# Altium footprint library Relays.PcbLib: 58 footprints (part 2 of 4)
Each footprint in its own frame and in the unit in brackets; x right, y up, seen from the top. Pads: shape width x height; smd on the part's side, far side on the other; paste and mask are expansions set on the pad; w line width, h text height; cw(c..) or ccw(c..) is an arc to the next point about the centre after c.
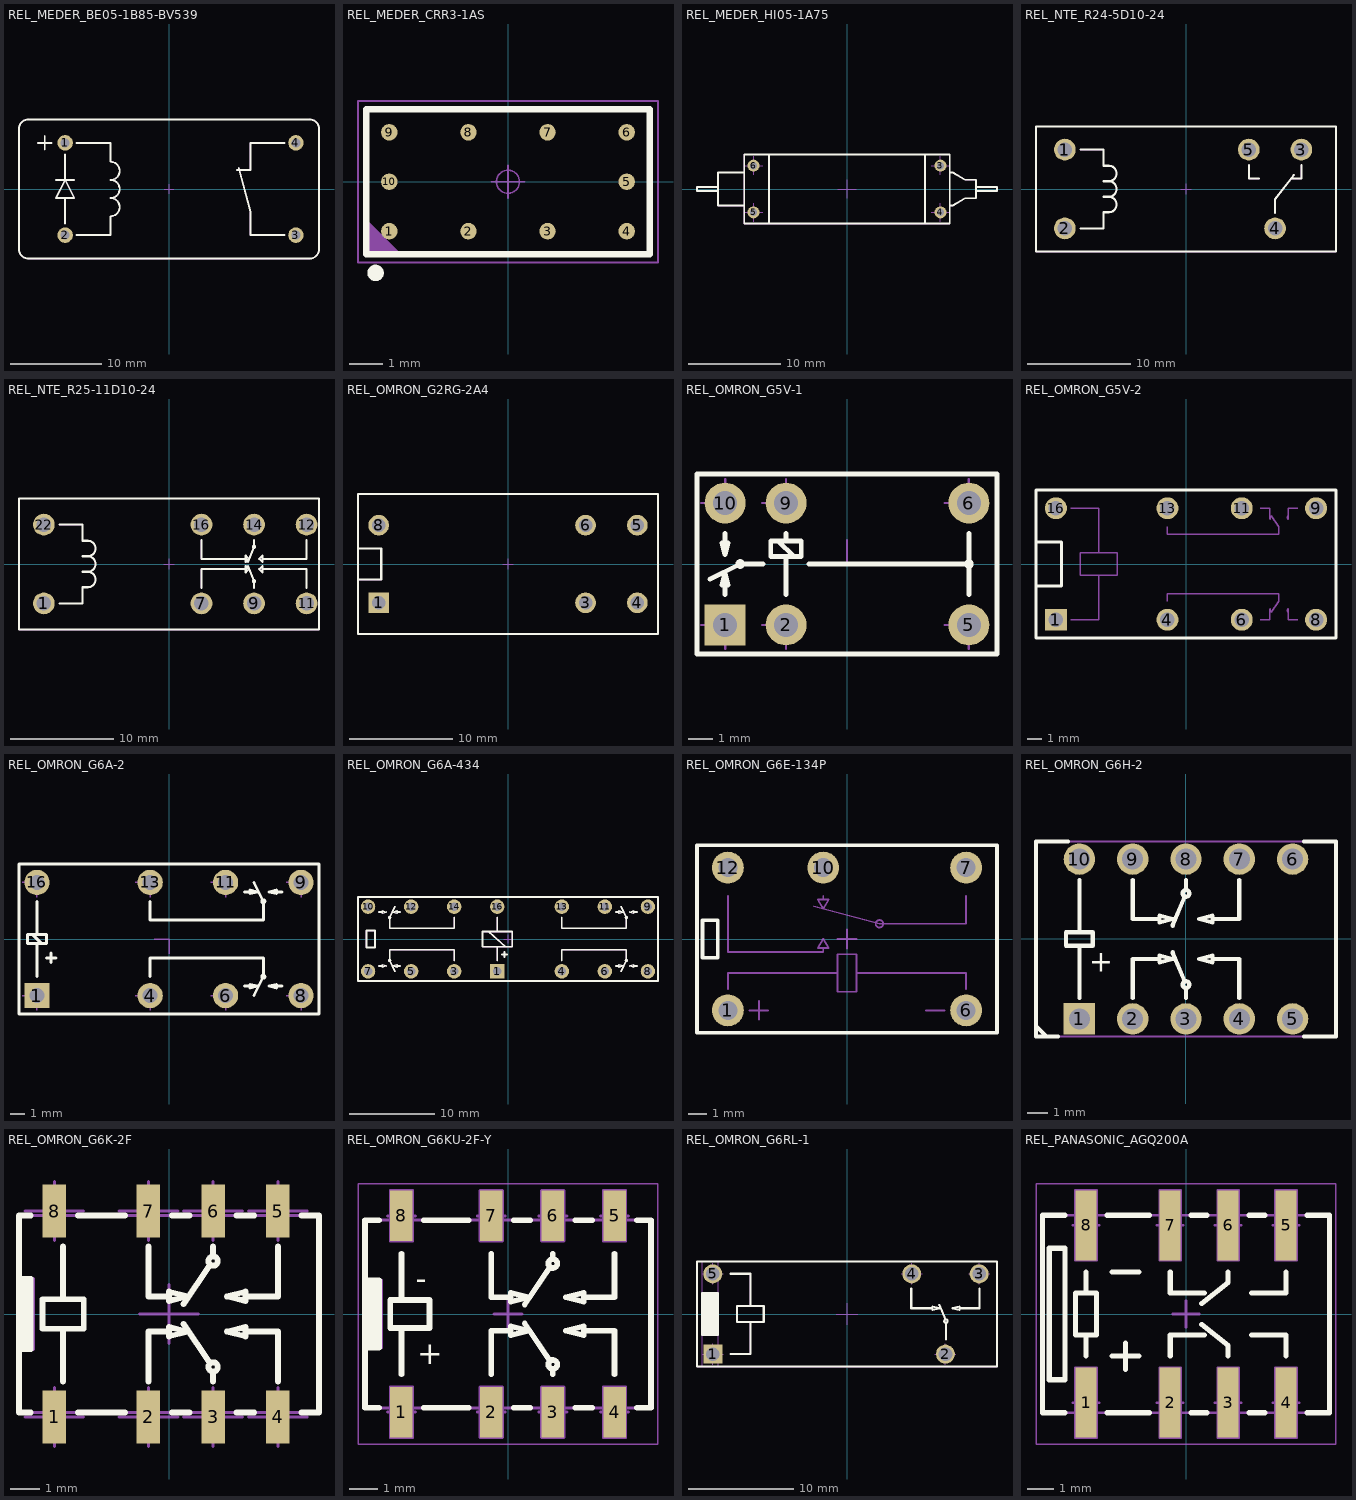
[diagram p1: the footprints below, top view; thin cyan lines are the x and y axes]

## REL_MEDER_BE05-1B85-BV539 [mm] "1 Form B (SPST Normaly Close) PCB Relay, Body 33mm x 15.3mm, Body 33mm x 15.3mm"
height 10
pads (4):
  round 1.7 hole 1: 1(-11.43,5.08) 2(-11.43,-5.08) 3(13.97,-5.08) 4(13.97,5.08)
Top Overlay:
  lines w0.2: -14.43,5.08 -12.93,5.08 ; -13.68,4.33 -13.68,5.83 ; -12.43,1 -10.43,1 ; -11.43,-3.83 -11.43,-1 ; -11.43,3.83 -11.43,1 ; -10.18,-5.08 -6.43,-5.08 -6.43,-3 ccw(c-6.43,-2) -6.43,-1 ccw(c-6.43,0) -6.43,1 ccw(c-6.43,2) -6.43,3 -6.43,5.08 -10.18,5.08 ; 7.47,2.08 8.97,2.08 8.97,5.08 12.72,5.08 ; 7.676,2.33 8.97,-2.5 8.97,-5.08 12.72,-5.08 ; -11.43,1 -12.43,-1 -10.43,-1 -11.43,1 ; -16.51,-6.65 ccw(c-15.51,-6.65) -15.51,-7.65 15.51,-7.65 ccw(c15.51,-6.65) 16.51,-6.65 16.51,6.65 ccw(c15.51,6.65) 15.51,7.65 -15.51,7.65 ccw(c-15.51,6.65) -16.51,6.65 -16.51,-6.65
Mechanical 8:
  lines w0.1: -11.93,-5.08 -11.43,-5.08 ; -11.93,5.08 -11.43,5.08 ; -11.43,-5.58 -11.43,-5.08 ; -11.43,-4.58 -11.43,-5.08 ; -11.43,4.58 -11.43,5.08 ; -11.43,5.58 -11.43,5.08 ; -10.93,-5.08 -11.43,-5.08 ; -10.93,5.08 -11.43,5.08 ; -0.5,0 0,0 ; 0,-0.5 0,0 ; 0,0.5 0,0 ; 0.5,0 0,0 ; 13.47,-5.08 13.97,-5.08 ; 13.47,5.08 13.97,5.08 ; 13.97,-5.58 13.97,-5.08 ; 13.97,-4.58 13.97,-5.08 ; 13.97,4.58 13.97,5.08 ; 13.97,5.58 13.97,5.08 ; 14.47,-5.08 13.97,-5.08 ; 14.47,5.08 13.97,5.08
Mechanical 14:
  lines w0.1: -14.43,5.08 -12.93,5.08 ; -13.68,4.33 -13.68,5.83 ; -12.43,1 -10.43,1 ; -11.43,-3.83 -11.43,-1 ; -11.43,3.83 -11.43,1 ; -10.18,-5.08 -6.43,-5.08 -6.43,-3 ccw(c-6.43,-2) -6.43,-1 ccw(c-6.43,0) -6.43,1 ccw(c-6.43,2) -6.43,3 -6.43,5.08 -10.18,5.08 ; 7.47,2.08 8.97,2.08 8.97,5.08 12.72,5.08 ; 7.676,2.33 8.97,-2.5 8.97,-5.08 12.72,-5.08 ; -11.43,1 -12.43,-1 -10.43,-1 -11.43,1 ; -16.51,-6.65 ccw(c-15.51,-6.65) -15.51,-7.65 15.51,-7.65 ccw(c15.51,-6.65) 16.51,-6.65 16.51,6.65 ccw(c15.51,6.65) 15.51,7.65 -15.51,7.65 ccw(c-15.51,6.65) -16.51,6.65 -16.51,-6.65
3D body: height 10, standoff -3.2, extent -16.51,-7.65 16.51,7.65

## REL_MEDER_CRR3-1AS [mm] "10 Pin SPST BGA Relay, MEDER CRR3-1AS CRR Serie, Body 8.6mm x 4.4mm"
height 3.9
pads (10):
  round 0.5 smd: 1(-3.6,-1.5) 2(-1.2,-1.5) 3(1.2,-1.5) 4(3.6,-1.5) 5(3.6,0) 6(3.6,1.5) 7(1.2,1.5) 8(-1.2,1.5) 9(-3.6,1.5) 10(-3.6,0)
Top Overlay:
  circle w0.25: c-4.017,-2.766 r0.125
  lines w0.2: -4.3,-2.2 -4.3,2.2 4.3,2.2 4.3,-2.2 -4.3,-2.2
Mechanical 14:
  lines w0.1: -4.3,-2.1 -4.2,-2.2 ; -4.3,-2 -4.1,-2.2 ; -4.3,-1.9 -4,-2.2 ; -4.3,-1.8 -3.9,-2.2 ; -4.3,-1.7 -3.8,-2.2 ; -4.3,-1.6 -3.7,-2.2 ; -4.3,-1.5 -3.6,-2.2 ; -4.3,-1.4 -3.5,-2.2 ; -4.3,-1.3 -3.4,-2.2 ; -4.3,-1.2 -3.3,-2.2 ; -4.3,-2.2 -4.3,2.2 4.3,2.2 4.3,-2.2 -4.3,-2.2
Mechanical 15:
  circle w0.05: c0,0 r0.35
  lines w0.05: -0.5,0 0.5,0 ; 0,-0.5 0,0.5 ; -4.55,-2.45 -4.55,2.45 4.55,2.45 4.55,-2.45 -4.55,-2.45
3D body: height 3.6, standoff 0, extent -4.3,-2.2 4.3,2.2

## REL_MEDER_HI05-1A75 [mm] "SPST High Insulation Reed Relay, MEDER HI Series, Body 34 x 7.5 x 7.9 mm"
height 7.9
pads (4):
  round 1.3 hole 0.8: 3(10.16,2.54) 4(10.16,-2.54) 5(-10.16,-2.54) 6(-10.16,2.54)
Top Overlay:
  lines w0.2: -14,-0.2 -16.3,-0.2 -16.3,0.2 -14,0.2 ; -11.16,-1.8 -14,-1.8 -14,1.8 -11.16,1.8 ; -8.46,-3.75 -8.46,3.75 ; 8.46,-3.75 8.46,3.75 ; 11.16,-1.8 11.5,-1.8 12.833,-1 14,-1 14,1 12.833,1 11.5,1.8 11.16,1.8 ; 14,-0.2 16.3,-0.2 16.3,0.2 14,0.2 ; -11.16,-3.75 11.16,-3.75 11.16,3.75 -11.16,3.75 -11.16,-3.75
Mechanical 8:
  lines w0.1: -11.16,-2.54 -10.16,-2.54 ; -11.16,2.54 -10.16,2.54 ; -10.16,-3.54 -10.16,-2.54 ; -10.16,-1.54 -10.16,-2.54 ; -10.16,1.54 -10.16,2.54 ; -10.16,3.54 -10.16,2.54 ; -9.16,-2.54 -10.16,-2.54 ; -9.16,2.54 -10.16,2.54 ; -1,0 0,0 ; 0,-1 0,0 ; 0,1 0,0 ; 1,0 0,0 ; 9.16,-2.54 10.16,-2.54 ; 9.16,2.54 10.16,2.54 ; 10.16,-3.54 10.16,-2.54 ; 10.16,-1.54 10.16,-2.54 ; 10.16,1.54 10.16,2.54 ; 10.16,3.54 10.16,2.54 ; 11.16,-2.54 10.16,-2.54 ; 11.16,2.54 10.16,2.54
Mechanical 14:
  lines w0.1: -14,-0.2 -16.3,-0.2 -16.3,0.2 -14,0.2 ; -11.16,-1.8 -14,-1.8 -14,1.8 -11.16,1.8 ; -8.46,-3.75 -8.46,3.75 ; 8.46,-3.75 8.46,3.75 ; 11.16,-1.8 11.5,-1.8 12.833,-1 14,-1 14,1 12.833,1 11.5,1.8 11.16,1.8 ; 14,-0.2 16.3,-0.2 16.3,0.2 14,0.2 ; -11.16,-3.75 11.16,-3.75 11.16,3.75 -11.16,3.75 -11.16,-3.75
3D body: height 7.4, standoff -3.8, extent -16.3,-3.75 16.3,3.75

## REL_NTE_R24-5D10-24 [mm] "SPDT PCB Relay, R24 Serie"
height 26.2
pads (5):
  round 2.1 hole 1.4: 1(-11.71,3.81) 2(-11.71,-3.81) 3(11.15,3.81) 4(8.61,-3.81) 5(6.07,3.81)
Top Overlay:
  lines w0.2: -10.21,-3.81 -7.958,-3.81 -7.958,-2.25 -7.458,-2.25 ccw(c-7.458,-1.5) -7.458,-0.75 ; -10.21,3.81 -7.958,3.81 -7.958,2.25 -7.458,2.25 cw(c-7.458,1.5) -7.458,0.75 ; -7.958,-0.75 -7.458,-0.75 ; -7.958,0.75 -7.458,0.75 ; 6.07,2.31 6.07,1 7.07,1 ; 8.61,-2.31 8.61,-1 10.413,1.342 ; 10.15,1 11.15,1 11.15,2.31 ; -7.458,-0.75 ccw(c-7.458,0) -7.458,0.75 ; -14.5,-6.05 -14.5,6.05 14.5,6.05 14.5,-6.05 -14.5,-6.05
Mechanical 8:
  lines w0.1: -12.21,-3.81 -11.71,-3.81 ; -12.21,3.81 -11.71,3.81 ; -11.71,-4.31 -11.71,-3.81 ; -11.71,-3.31 -11.71,-3.81 ; -11.71,3.31 -11.71,3.81 ; -11.71,4.31 -11.71,3.81 ; -11.21,-3.81 -11.71,-3.81 ; -11.21,3.81 -11.71,3.81 ; -0.5,0 0,0 ; 0,-0.5 0,0 ; 0,0.5 0,0 ; 0.5,0 0,0 ; 5.57,3.81 6.07,3.81 ; 6.07,3.31 6.07,3.81 ; 6.07,4.31 6.07,3.81 ; 6.57,3.81 6.07,3.81 ; 8.11,-3.81 8.61,-3.81 ; 8.61,-4.31 8.61,-3.81 ; 8.61,-3.31 8.61,-3.81 ; 9.11,-3.81 8.61,-3.81 ; 10.65,3.81 11.15,3.81 ; 11.15,3.31 11.15,3.81 ; 11.15,4.31 11.15,3.81 ; 11.65,3.81 11.15,3.81
Mechanical 14:
  lines w0.1: -10.21,-3.81 -7.958,-3.81 -7.958,-2.25 -7.458,-2.25 ccw(c-7.458,-1.5) -7.458,-0.75 ; -10.21,3.81 -7.958,3.81 -7.958,2.25 -7.458,2.25 cw(c-7.458,1.5) -7.458,0.75 ; -7.958,-0.75 -7.458,-0.75 ; -7.958,0.75 -7.458,0.75 ; 6.07,2.31 6.07,1 7.07,1 ; 8.61,-2.31 8.61,-1 10.413,1.342 ; 10.15,1 11.15,1 11.15,2.31 ; -7.458,-0.75 ccw(c-7.458,0) -7.458,0.75 ; -14.5,-6.05 -14.5,6.05 14.5,6.05 14.5,-6.05 -14.5,-6.05
3D body: height 26.2, standoff -3.8, extent -14.5,-6.05 14.5,6.05

## REL_NTE_R25-11D10-24 [mm] "DPDT PCB Relay, R25 Serie"
height 25.5
pads (8):
  round 2.1 hole 1.4: 1(-12.1,-3.81) 7(3.14,-3.81) 9(8.22,-3.81) 11(13.3,-3.81) 12(13.3,3.81) 14(8.22,3.81) 16(3.14,3.81) 22(-12.1,3.81)
Top Overlay:
  circle w0.2: c8.22,-1.655 r0.1
  circle w0.2: c8.22,1.655 r0.1
  lines w0.2: -10.6,-3.81 -8.348,-3.81 -8.348,-2.25 -7.848,-2.25 ccw(c-7.848,-1.5) -7.848,-0.75 ; -10.6,3.81 -8.348,3.81 -8.348,2.25 -7.848,2.25 cw(c-7.848,1.5) -7.848,0.75 ; -8.348,-0.75 -7.848,-0.75 ; -8.348,0.75 -7.848,0.75 ; 3.14,-2.31 3.14,-0.5 7.42,-0.5 ; 3.14,2.31 3.14,0.5 7.42,0.5 ; 7.633,-0.2 8.22,-1.655 8.22,-2.31 ; 7.633,0.2 8.22,1.655 8.22,2.31 ; 9.02,-0.5 13.3,-0.5 13.3,-2.31 ; 9.02,0.5 13.3,0.5 13.3,2.31 ; -7.848,-0.75 ccw(c-7.848,0) -7.848,0.75 ; -14.5,-6.35 14.5,-6.35 14.5,6.35 -14.5,6.35 -14.5,-6.35 ; 7.42,-0.8 7.42,-0.2 7.72,-0.5 7.42,-0.8 ; 7.42,0.2 7.42,0.8 7.72,0.5 7.42,0.2 ; 8.72,-0.5 9.02,-0.2 9.02,-0.8 8.72,-0.5 ; 8.72,0.5 9.02,0.2 9.02,0.8 8.72,0.5
Mechanical 8:
  lines w0.1: -12.6,-3.81 -12.1,-3.81 ; -12.6,3.81 -12.1,3.81 ; -12.1,-4.31 -12.1,-3.81 ; -12.1,-3.31 -12.1,-3.81 ; -12.1,3.31 -12.1,3.81 ; -12.1,4.31 -12.1,3.81 ; -11.6,-3.81 -12.1,-3.81 ; -11.6,3.81 -12.1,3.81 ; -0.5,0 0,0 ; 0,-0.5 0,0 ; 0,0.5 0,0 ; 0.5,0 0,0 ; 2.64,3.81 3.14,3.81 ; 3.14,3.31 3.14,3.81 ; 3.14,4.31 3.14,3.81 ; 3.64,3.81 3.14,3.81 ; 7.72,3.81 8.22,3.81 ; 8.22,3.31 8.22,3.81 ; 8.22,4.31 8.22,3.81 ; 8.72,3.81 8.22,3.81 ; 12.8,-3.81 13.3,-3.81 ; 12.8,3.81 13.3,3.81 ; 13.3,-4.31 13.3,-3.81 ; 13.3,-3.31 13.3,-3.81 ; 13.3,3.31 13.3,3.81 ; 13.3,4.31 13.3,3.81 ; 13.8,-3.81 13.3,-3.81 ; 13.8,3.81 13.3,3.81 ; 2.64,-3.81 3.14,-3.81 ; 2.64,-3.81 3.14,-3.81 ; 2.64,-3.81 3.14,-3.81 ; 3.14,-4.31 3.14,-3.81 ; 3.14,-4.31 3.14,-3.81 ; 3.14,-4.31 3.14,-3.81 ; 3.14,-3.81 3.64,-3.81 ; 3.14,-3.81 3.14,-3.31 ; 3.14,-3.81 3.64,-3.81 ; 3.14,-3.81 3.14,-3.31 ; 3.14,-3.81 3.64,-3.81 ; 3.14,-3.81 3.14,-3.31 ; 7.72,-3.81 8.22,-3.81 ; 7.72,-3.81 8.22,-3.81 ; 7.72,-3.81 8.22,-3.81 ; 7.72,-3.81 8.22,-3.81 ; 8.22,-4.31 8.22,-3.81 ; 8.22,-4.31 8.22,-3.81 ; 8.22,-4.31 8.22,-3.81 ; 8.22,-4.31 8.22,-3.81 ; 8.22,-3.81 8.72,-3.81 ; 8.22,-3.81 8.22,-3.31 ; 8.22,-3.81 8.72,-3.81 ; 8.22,-3.81 8.22,-3.31 ; 8.22,-3.81 8.72,-3.81 ; 8.22,-3.81 8.22,-3.31 ; 8.22,-3.81 8.72,-3.81 ; 8.22,-3.81 8.22,-3.31
Mechanical 14:
  circle w0.1: c8.22,-1.655 r0.1
  circle w0.1: c8.22,1.655 r0.1
  lines w0.1: -10.6,-3.81 -8.348,-3.81 -8.348,-2.25 -7.848,-2.25 ccw(c-7.848,-1.5) -7.848,-0.75 ; -10.6,3.81 -8.348,3.81 -8.348,2.25 -7.848,2.25 cw(c-7.848,1.5) -7.848,0.75 ; -8.348,-0.75 -7.848,-0.75 ; -8.348,0.75 -7.848,0.75 ; 3.14,-2.31 3.14,-0.5 7.42,-0.5 ; 3.14,2.31 3.14,0.5 7.42,0.5 ; 7.633,-0.2 8.22,-1.655 8.22,-2.31 ; 7.633,0.2 8.22,1.655 8.22,2.31 ; 9.02,-0.5 13.3,-0.5 13.3,-2.31 ; 9.02,0.5 13.3,0.5 13.3,2.31 ; -7.848,-0.75 ccw(c-7.848,0) -7.848,0.75 ; -14.5,-6.35 14.5,-6.35 14.5,6.35 -14.5,6.35 -14.5,-6.35 ; 7.42,-0.8 7.42,-0.2 7.72,-0.5 7.42,-0.8 ; 7.42,0.2 7.42,0.8 7.72,0.5 7.42,0.2 ; 8.72,-0.5 9.02,-0.2 9.02,-0.8 8.72,-0.5 ; 8.72,0.5 9.02,0.2 9.02,0.8 8.72,0.5
3D body: height 25.5, standoff -3.8, extent -14.5,-6.35 14.5,6.35

## REL_OMRON_G2RG-2A4 [mm] "6 Leads, Row Spacing 7.5 mm; Body 29mm x 13.5mm, OMRON_G2RG Serie"
height 0.648
pads (6):
  rect 2x2 hole 1.3: 1(-12.5,-3.75)
  round 2 hole 1.3: 3(7.5,-3.75) 4(12.5,-3.75) 5(12.5,3.75) 6(7.5,3.75) 8(-12.5,3.75)
Top Overlay:
  lines w0.2: -14.5,-1.5 -12.25,-1.5 -12.25,1.5 -14.5,1.5 ; -14.5,-6.75 14.5,-6.75 14.5,6.75 -14.5,6.75 -14.5,-6.75
Mechanical 8:
  lines w0.1: -13,-3.75 -12.5,-3.75 ; -13,3.75 -12.5,3.75 ; -12.5,-4.25 -12.5,-3.75 ; -12.5,-3.25 -12.5,-3.75 ; -12.5,3.25 -12.5,3.75 ; -12.5,4.25 -12.5,3.75 ; -12,-3.75 -12.5,-3.75 ; -12,3.75 -12.5,3.75 ; -0.5,0 0,0 ; 0,-0.5 0,0 ; 0,0.5 0,0 ; 0.5,0 0,0 ; 7,-3.75 7.5,-3.75 ; 7,3.75 7.5,3.75 ; 7.5,-4.25 7.5,-3.75 ; 7.5,-3.25 7.5,-3.75 ; 7.5,3.25 7.5,3.75 ; 7.5,4.25 7.5,3.75 ; 8,-3.75 7.5,-3.75 ; 8,3.75 7.5,3.75 ; 12,-3.75 12.5,-3.75 ; 12,3.75 12.5,3.75 ; 12.5,-4.25 12.5,-3.75 ; 12.5,-3.25 12.5,-3.75 ; 12.5,3.25 12.5,3.75 ; 12.5,4.25 12.5,3.75 ; 13,-3.75 12.5,-3.75 ; 13,3.75 12.5,3.75
Mechanical 14:
  lines w0.1: -14.5,-1.5 -12.25,-1.5 -12.25,1.5 -14.5,1.5 ; -14.5,-6.75 14.5,-6.75 14.5,6.75 -14.5,6.75 -14.5,-6.75
3D body: height 25.5, standoff -3.6, extent -14.5,-6.75 14.5,6.75

## REL_OMRON_G5V-1 [mm] "6 Leads, Row Spacing 5.08mm; Body 12.5mm x 7.5mm, OMRON_G5V-1 Serie"
height 10
pads (6):
  rect 1.7x1.7 hole 1: 1(-5.08,-2.54)
  round 1.7 hole 1: 2(-2.54,-2.54) 5(5.08,-2.54) 6(5.08,2.54) 9(-2.54,2.54) 10(-5.08,2.54)
Top Overlay:
  circle w0.2: c-4.445,0 r0.1
  circle w0.2: c5.08,0 r0.1
  lines w0.2: -5.715,-0.635 -4.445,0 -3.492,0 ; -5.08,-1.27 -5.08,-0.885 ; -5.08,0.885 -5.08,1.27 ; -2.858,0.953 -2.222,0.318 ; -2.54,-1.27 -2.54,0.318 ; -2.54,0.953 -2.54,1.27 ; -1.587,0 5.08,0 ; 5.08,-1.27 5.08,1.27 ; -6.25,-3.75 6.25,-3.75 6.25,3.75 -6.25,3.75 -6.25,-3.75 ; -5.205,-0.885 -4.955,-0.885 -5.08,-0.385 -5.205,-0.885 ; -5.205,0.885 -4.955,0.885 -5.08,0.385 -5.205,0.885 ; -3.175,0.318 -3.175,0.953 -1.905,0.953 -1.905,0.318 -3.175,0.318
Mechanical 8:
  lines w0.1: -6.08,-2.54 -5.08,-2.54 -5.08,-3.54 ; -6.08,2.54 -5.08,2.54 -5.08,3.54 ; -3.54,-2.54 -2.54,-2.54 -2.54,-3.54 ; -3.54,2.54 -2.54,2.54 -2.54,3.54 ; -1,0 0,0 0,1 ; 4.08,-2.54 5.08,-2.54 5.08,-3.54 ; 4.08,2.54 5.08,2.54 5.08,3.54
Mechanical 14:
  circle w0.1: c5.08,0 r0.1
  circle w0.1: c-4.445,0 r0.1
  lines w0.1: -5.715,-0.635 -4.445,0 -3.492,0 ; -5.08,-1.27 -5.08,-0.885 ; -5.08,0.885 -5.08,1.27 ; -2.858,0.953 -2.222,0.318 ; -2.54,-1.27 -2.54,0.318 ; -2.54,0.953 -2.54,1.27 ; -1.587,0 5.08,0 ; 5.08,-1.27 5.08,1.27 ; -6.25,-3.75 -6.25,3.75 6.25,3.75 6.25,-3.75 -6.25,-3.75 ; -5.205,-0.885 -5.08,-0.385 -4.955,-0.885 -5.205,-0.885 ; -5.205,0.885 -5.08,0.385 -4.955,0.885 -5.205,0.885 ; -3.175,0.318 -1.905,0.318 -1.905,0.953 -3.175,0.953 -3.175,0.318
3D body: height 10, standoff -3.5, extent -6.25,-3.75 6.25,3.75

## REL_OMRON_G5V-2 [mm] "8 Leads, Row Spacing 7.62 mm; Body 20.5mm x 10.1mm, OMRON_G5V-2 Serie"
height 11.5
pads (8):
  rect 1.5x1.5 hole 1: 1(-8.89,-3.81)
  round 1.5 hole 1: 4(-1.27,-3.81) 6(3.81,-3.81) 8(8.89,-3.81) 9(8.89,3.81) 11(3.81,3.81) 13(-1.27,3.81) 16(-8.89,3.81)
Top Overlay:
  lines w0.2: -10.25,-1.5 -8.5,-1.5 -8.5,1.5 -10.25,1.5 ; -10.25,-5.05 -10.25,5.05 10.25,5.05 10.25,-5.05 -10.25,-5.05
Mechanical 14:
  lines w0.1: -10.25,-1.5 -8.5,-1.5 -8.5,1.5 -10.25,1.5 ; -7.874,-3.81 -5.969,-3.81 -5.969,-0.762 ; -7.874,3.81 -5.969,3.81 -5.969,0.762 ; -1.27,-2.54 -1.27,-2.032 6.35,-2.032 6.35,-2.54 5.842,-3.302 ; -1.27,2.54 -1.27,2.032 6.35,2.032 6.35,2.54 5.842,3.302 ; 5.08,-3.81 5.715,-3.81 5.715,-3.048 cw(c5.588,-3.175) 5.715,-3.302 ; 5.08,3.81 5.715,3.81 5.715,3.048 ccw(c5.588,3.175) 5.715,3.302 ; 6.985,-3.302 cw(c7.112,-3.175) 6.985,-3.048 6.985,-3.81 7.62,-3.81 ; 6.985,3.302 ccw(c7.112,3.175) 6.985,3.048 6.985,3.81 7.62,3.81 ; -10.25,-5.05 -10.25,5.05 10.25,5.05 10.25,-5.05 -10.25,-5.05 ; -7.239,-0.762 -7.239,0.762 -4.699,0.762 -4.699,-0.762 -7.239,-0.762
3D body: height 11.5, standoff -3.5, extent -10.249,-5.049 10.251,5.051

## REL_OMRON_G6A-2 [mm] "10 Leads, Row Spacing 7.62mm; Body 20.2mm x 10.1mm, OMRON_G6A-2 Serie"
height 8.4
pads (8):
  rect 1.7x1.7 hole 1: 1(-8.89,-3.81)
  round 1.7 hole 1: 4(-1.27,-3.81) 6(3.81,-3.81) 8(8.89,-3.81) 9(8.89,3.81) 11(3.81,3.81) 13(-1.27,3.81) 16(-8.89,3.81)
Top Overlay:
  circle w0.2: c6.35,-2.54 r0.1
  circle w0.2: c6.35,2.54 r0.1
  lines w0.2: -9.207,0.318 -8.572,-0.317 ; -8.89,-2.54 -8.89,-0.317 ; -8.89,0.318 -8.89,2.54 ; -8.255,-1.27 -7.62,-1.27 ; -7.938,-1.587 -7.938,-0.952 ; -1.27,-2.54 -1.27,-1.27 6.35,-1.27 6.35,-2.54 5.715,-3.81 ; -1.27,2.54 -1.27,1.27 6.35,1.27 6.35,2.54 5.715,3.81 ; 5.08,-3.175 5.465,-3.175 ; 5.08,3.175 5.465,3.175 ; 7.235,-3.175 7.62,-3.175 ; 7.235,3.175 7.62,3.175 ; -10.1,-5.05 10.1,-5.05 10.1,5.05 -10.1,5.05 -10.1,-5.05 ; -9.525,-0.317 -9.525,0.318 -8.255,0.318 -8.255,-0.317 -9.525,-0.317 ; 5.465,-3.3 5.465,-3.05 5.965,-3.175 5.465,-3.3 ; 5.465,3.05 5.965,3.175 5.465,3.3 5.465,3.05 ; 6.735,-3.175 7.235,-3.05 7.235,-3.3 6.735,-3.175 ; 6.735,3.175 7.235,3.05 7.235,3.3 6.735,3.175
Mechanical 8:
  lines w0.1: -9.89,-3.81 -8.89,-3.81 -8.89,-4.81 ; -9.89,3.81 -8.89,3.81 -8.89,2.81 ; -2.27,-3.81 -1.27,-3.81 -1.27,-4.81 ; -2.27,3.81 -1.27,3.81 -1.27,2.81 ; -1,0 0,0 0,-1 ; 2.81,-3.81 3.81,-3.81 3.81,-4.81 ; 2.81,3.81 3.81,3.81 3.81,2.81 ; 7.89,-3.81 8.89,-3.81 8.89,-4.81 ; 7.89,3.81 8.89,3.81 8.89,2.81 ; -9.19,-3.96 -8.59,-3.96 -8.59,-3.66 -9.19,-3.66 -9.19,-3.96 ; -9.19,3.66 -8.59,3.66 -8.59,3.96 -9.19,3.96 -9.19,3.66 ; -1.57,-3.96 -0.97,-3.96 -0.97,-3.66 -1.57,-3.66 -1.57,-3.96 ; -1.57,3.66 -0.97,3.66 -0.97,3.96 -1.57,3.96 -1.57,3.66 ; 3.51,-3.96 4.11,-3.96 4.11,-3.66 3.51,-3.66 3.51,-3.96 ; 3.51,3.66 4.11,3.66 4.11,3.96 3.51,3.96 3.51,3.66 ; 8.59,-3.96 9.19,-3.96 9.19,-3.66 8.59,-3.66 8.59,-3.96 ; 8.59,3.66 9.19,3.66 9.19,3.96 8.59,3.96 8.59,3.66
Mechanical 14:
  circle w0.1: c6.35,-2.54 r0.1
  circle w0.1: c6.35,2.54 r0.1
  lines w0.1: -9.207,0.318 -8.572,-0.317 ; -8.89,-2.54 -8.89,-0.317 ; -8.89,0.318 -8.89,2.54 ; -8.255,-1.27 -7.62,-1.27 ; -7.938,-1.587 -7.938,-0.952 ; -1.27,-2.54 -1.27,-1.27 6.35,-1.27 6.35,-2.54 5.715,-3.81 ; -1.27,2.54 -1.27,1.27 6.35,1.27 6.35,2.54 5.715,3.81 ; 5.08,-3.175 5.465,-3.175 ; 5.08,3.175 5.465,3.175 ; 7.235,-3.175 7.62,-3.175 ; 7.235,3.175 7.62,3.175 ; -10.1,-5.05 -10.1,5.05 10.1,5.05 10.1,-5.05 -10.1,-5.05 ; -9.525,-0.317 -9.525,0.318 -8.255,0.318 -8.255,-0.317 -9.525,-0.317 ; 5.465,-3.3 5.965,-3.175 5.465,-3.05 5.465,-3.3 ; 5.465,3.05 5.465,3.3 5.965,3.175 5.465,3.05 ; 6.735,-3.175 7.235,-3.3 7.235,-3.05 6.735,-3.175 ; 6.735,3.175 7.235,3.3 7.235,3.05 6.735,3.175
3D body: height 8.4, standoff -3.16, extent -10.1,-5.05 10.1,5.05

## REL_OMRON_G6A-434 [mm] "14 Leads, Row Spacing 7.62mm; Body 35.4mm x 10.1mm, OMRON G6A-434 Case"
height 8.4
pads (14):
  rect 1.7x1.7 hole 1: 1(-1.27,-3.81)
  round 1.7 hole 1: 3(-6.35,-3.81) 4(6.35,-3.81) 5(-11.43,-3.81) 6(11.43,-3.81) 7(-16.51,-3.81) 8(16.51,-3.81) 9(16.51,3.81) 10(-16.51,3.81) 11(11.43,3.81) 12(-11.43,3.81) 13(6.35,3.81) 14(-6.35,3.81) 16(-1.27,3.81)
Top Overlay:
  circle w0.2: c13.97,-2.54 r0.1
  circle w0.2: c13.97,2.54 r0.1
  circle w0.2: c-13.97,-2.54 r0.1
  circle w0.2: c-13.97,2.54 r0.1
  lines w0.2: -15.24,-3.175 -14.855,-3.175 ; -15.24,3.175 -14.855,3.175 ; -13.335,-3.81 -13.97,-2.54 -13.97,-1.27 -6.35,-1.27 -6.35,-2.54 ; -13.335,3.81 -13.97,2.54 -13.97,1.27 -6.35,1.27 -6.35,2.54 ; -13.085,-3.175 -12.7,-3.175 ; -13.085,3.175 -12.7,3.175 ; -2.275,0.875 -0.289,-0.916 ; -1.27,-2.54 -1.27,-0.9 ; -1.27,0.875 -1.27,2.54 ; -0.735,-1.82 -0.1,-1.82 ; -0.417,-2.137 -0.417,-1.502 ; 6.35,-2.54 6.35,-1.27 13.97,-1.27 13.97,-2.54 13.335,-3.81 ; 6.35,2.54 6.35,1.27 13.97,1.27 13.97,2.54 13.335,3.81 ; 12.7,-3.175 13.085,-3.175 ; 12.7,3.175 13.085,3.175 ; 14.855,-3.175 15.24,-3.175 ; 14.855,3.175 15.24,3.175 ; -17.7,-4.95 -17.7,4.95 17.7,4.95 17.7,-4.95 -17.7,-4.95 ; -16.7,-1 -16.7,1 -15.7,1 -15.7,-1 -16.7,-1 ; -14.855,-3.3 -14.855,-3.05 -14.355,-3.175 -14.855,-3.3 ; -14.855,3.05 -14.355,3.175 -14.855,3.3 -14.855,3.05 ; -13.585,-3.175 -13.085,-3.05 -13.085,-3.3 -13.585,-3.175 ; -13.585,3.175 -13.085,3.05 -13.085,3.3 -13.585,3.175 ; -3,-0.9 -3,0.875 0.5,0.875 0.5,-0.9 -3,-0.9 ; 13.085,-3.3 13.085,-3.05 13.585,-3.175 13.085,-3.3 ; 13.085,3.05 13.585,3.175 13.085,3.3 13.085,3.05 ; 14.355,-3.175 14.855,-3.05 14.855,-3.3 14.355,-3.175 ; 14.355,3.175 14.855,3.05 14.855,3.3 14.355,3.175
Mechanical 8:
  lines w0.1: -17.01,-3.81 -16.51,-3.81 ; -17.01,3.81 -16.51,3.81 ; -16.51,-4.31 -16.51,-3.81 ; -16.51,-3.31 -16.51,-3.81 ; -16.51,3.31 -16.51,3.81 ; -16.51,4.31 -16.51,3.81 ; -16.01,-3.81 -16.51,-3.81 ; -16.01,3.81 -16.51,3.81 ; -11.93,-3.81 -11.43,-3.81 ; -11.93,3.81 -11.43,3.81 ; -11.43,-4.31 -11.43,-3.81 ; -11.43,-3.31 -11.43,-3.81 ; -11.43,3.31 -11.43,3.81 ; -11.43,4.31 -11.43,3.81 ; -10.93,-3.81 -11.43,-3.81 ; -10.93,3.81 -11.43,3.81 ; -6.85,-3.81 -6.35,-3.81 ; -6.85,3.81 -6.35,3.81 ; -6.35,-4.31 -6.35,-3.81 ; -6.35,-3.31 -6.35,-3.81 ; -6.35,3.31 -6.35,3.81 ; -6.35,4.31 -6.35,3.81 ; -5.85,-3.81 -6.35,-3.81 ; -5.85,3.81 -6.35,3.81 ; -1.77,-3.81 -1.27,-3.81 ; -1.77,3.81 -1.27,3.81 ; -1.27,-4.31 -1.27,-3.81 ; -1.27,-3.31 -1.27,-3.81 ; -1.27,3.31 -1.27,3.81 ; -1.27,4.31 -1.27,3.81 ; -0.77,-3.81 -1.27,-3.81 ; -0.77,3.81 -1.27,3.81 ; -0.5,0 0,0 ; 0,-0.5 0,0 ; 0,0.5 0,0 ; 0.5,0 0,0 ; 5.85,-3.81 6.35,-3.81 ; 5.85,3.81 6.35,3.81 ; 6.35,-4.31 6.35,-3.81 ; 6.35,-3.31 6.35,-3.81 ; 6.35,3.31 6.35,3.81 ; 6.35,4.31 6.35,3.81 ; 6.85,-3.81 6.35,-3.81 ; 6.85,3.81 6.35,3.81 ; 10.93,-3.81 11.43,-3.81 ; 10.93,3.81 11.43,3.81 ; 11.43,-4.31 11.43,-3.81 ; 11.43,-3.31 11.43,-3.81 ; 11.43,3.31 11.43,3.81 ; 11.43,4.31 11.43,3.81 ; 11.93,-3.81 11.43,-3.81 ; 11.93,3.81 11.43,3.81 ; 16.01,-3.81 16.51,-3.81 ; 16.01,3.81 16.51,3.81 ; 16.51,-4.31 16.51,-3.81 ; 16.51,-3.31 16.51,-3.81 ; 16.51,3.31 16.51,3.81 ; 16.51,4.31 16.51,3.81 ; 17.01,-3.81 16.51,-3.81 ; 17.01,3.81 16.51,3.81
Mechanical 14:
  circle w0.1: c-13.97,2.54 r0.1
  circle w0.1: c-13.97,-2.54 r0.1
  circle w0.1: c13.97,2.54 r0.1
  circle w0.1: c13.97,-2.54 r0.1
  lines w0.1: -15.24,-3.175 -14.855,-3.175 ; -15.24,3.175 -14.855,3.175 ; -13.335,-3.81 -13.97,-2.54 -13.97,-1.27 -6.35,-1.27 -6.35,-2.54 ; -13.335,3.81 -13.97,2.54 -13.97,1.27 -6.35,1.27 -6.35,2.54 ; -13.085,-3.175 -12.7,-3.175 ; -13.085,3.175 -12.7,3.175 ; -2.275,0.875 -0.289,-0.916 ; -1.27,-2.54 -1.27,-0.9 ; -1.27,0.875 -1.27,2.54 ; -0.735,-1.82 -0.1,-1.82 ; -0.417,-2.137 -0.417,-1.502 ; 6.35,-2.54 6.35,-1.27 13.97,-1.27 13.97,-2.54 13.335,-3.81 ; 6.35,2.54 6.35,1.27 13.97,1.27 13.97,2.54 13.335,3.81 ; 12.7,-3.175 13.085,-3.175 ; 12.7,3.175 13.085,3.175 ; 14.855,-3.175 15.24,-3.175 ; 14.855,3.175 15.24,3.175 ; -17.7,-4.95 -17.7,4.95 17.7,4.95 17.7,-4.95 -17.7,-4.95 ; -16.7,-1 -16.7,1 -15.7,1 -15.7,-1 -16.7,-1 ; -14.855,-3.3 -14.355,-3.175 -14.855,-3.05 -14.855,-3.3 ; -14.855,3.05 -14.855,3.3 -14.355,3.175 -14.855,3.05 ; -13.585,-3.175 -13.085,-3.3 -13.085,-3.05 -13.585,-3.175 ; -13.585,3.175 -13.085,3.3 -13.085,3.05 -13.585,3.175 ; -3,-0.9 0.5,-0.9 0.5,0.875 -3,0.875 -3,-0.9 ; 13.085,-3.3 13.585,-3.175 13.085,-3.05 13.085,-3.3 ; 13.085,3.05 13.085,3.3 13.585,3.175 13.085,3.05 ; 14.355,-3.175 14.855,-3.3 14.855,-3.05 14.355,-3.175 ; 14.355,3.175 14.855,3.3 14.855,3.05 14.355,3.175
3D body: height 8.2, standoff -2.52, extent -17.7,-4.95 17.7,4.95

## REL_OMRON_G6E-134P [mm] "5 Leads, Row Spacing 7.62mm; Body 16mm x 10mm, OMRON G6E Serie"
height 8
pads (5):
  round 1.7 hole 1: 1(-6.35,-3.81) 6(6.35,-3.81) 7(6.35,3.81) 10(-1.27,3.81) 12(-6.35,3.81)
Top Overlay:
  lines w0.2: -8,-5 -8,5 8,5 8,-5 -8,-5 ; -7.7,-1 -7.7,1 -6.9,1 -6.9,-1 -7.7,-1
Mechanical 8:
  lines w0.1: -6.85,-3.81 -6.35,-3.81 ; -6.85,3.81 -6.35,3.81 ; -6.35,-4.31 -6.35,-3.81 ; -6.35,-3.31 -6.35,-3.81 ; -6.35,3.31 -6.35,3.81 ; -6.35,4.31 -6.35,3.81 ; -5.85,-3.81 -6.35,-3.81 ; -5.85,3.81 -6.35,3.81 ; -1.77,3.81 -1.27,3.81 ; -1.27,3.31 -1.27,3.81 ; -1.27,4.31 -1.27,3.81 ; -0.77,3.81 -1.27,3.81 ; -0.5,0 0,0 ; 0,-0.5 0,0 ; 0,0.5 0,0 ; 0.5,0 0,0 ; 5.85,-3.81 6.35,-3.81 ; 5.85,3.81 6.35,3.81 ; 6.35,-4.31 6.35,-3.81 ; 6.35,-3.31 6.35,-3.81 ; 6.35,3.31 6.35,3.81 ; 6.35,4.31 6.35,3.81 ; 6.85,-3.81 6.35,-3.81 ; 6.85,3.81 6.35,3.81
Mechanical 14:
  circle w0.1: c1.73,0.81 r0.2
  lines w0.1: -6.35,-2.66 -6.35,-1.81 -0.5,-1.81 ; -6.35,2.31 -6.35,-0.69 -1.27,-0.69 -1.27,-0.49 ; -5.2,-3.81 -4.7,-3.81 ; -4.7,-4.31 -4.7,-3.81 ; -4.7,-3.31 -4.7,-3.81 ; -4.2,-3.81 -4.7,-3.81 ; -1.772,1.744 1.73,0.81 6.35,0.81 6.35,2.31 ; -1.27,2.11 -1.27,2.31 ; 0.5,-1.81 6.35,-1.81 6.35,-2.66 ; 4.2,-3.81 5.2,-3.81 ; -8,-5 8,-5 8,5 -8,5 -8,-5 ; -7.7,-1 -7.7,1 -6.9,1 -6.9,-1 -7.7,-1 ; -1.559,-0.49 -1.27,0.01 -0.981,-0.49 -1.559,-0.49 ; -1.559,2.11 -1.27,1.61 -0.981,2.11 -1.559,2.11 ; -0.5,-2.81 -0.5,-0.81 0.5,-0.81 0.5,-2.81 -0.5,-2.81
3D body: height 8, standoff -3.5, extent -8,-5 8,5

## REL_OMRON_G6H-2 [mm] "10 Leads, Row Spacing 7.62 mm; Body 14.3mm x 9.3mm, OMRON_G6H-2 Serie"
height 5.4
pads (10):
  rect 1.5x1.5 hole 1: 1(-5.08,-3.81)
  round 1.5 hole 1: 2(-2.54,-3.81) 3(0,-3.81) 4(2.54,-3.81) 5(5.08,-3.81) 6(5.08,3.81) 7(2.54,3.81) 8(0,3.81) 9(-2.54,3.81) 10(-5.08,3.81)
Top Overlay:
  circle w0.2: c0,2.175 r0.159
  circle w0.2: c0,-2.175 r0.159
  lines w0.2: -7.15,-4.15 -6.65,-4.65 ; -6.096,-4.65 -7.15,-4.65 -7.15,4.65 -5.623,4.65 ; -5.08,-2.81 -5.08,-0.318 ; -5.08,0.318 -5.08,2.81 ; -2.54,-2.81 -2.54,-0.953 -1.27,-0.953 ; -2.54,2.81 -2.54,0.953 -1.27,0.953 ; -0.635,-0.635 -0.061,-2.028 ; -0.635,0.635 -0.061,2.028 ; 0,-2.81 0,-2.334 ; 0,2.334 0,2.81 ; 1.27,-0.953 2.54,-0.953 2.54,-2.81 ; 1.27,0.953 2.54,0.953 2.54,2.81 ; 5.623,-4.65 7.15,-4.65 7.15,4.65 5.623,4.65 ; -5.715,-0.318 -5.715,0.318 -4.445,0.318 -4.445,-0.318 -5.715,-0.318 ; -1.27,-1.111 -1.27,-0.794 -0.635,-0.953 -1.27,-1.111 ; -1.27,0.794 -1.27,1.111 -0.635,0.953 -1.27,0.794 ; 0.635,-0.953 1.27,-0.794 1.27,-1.111 0.635,-0.953 ; 0.635,0.953 1.27,0.794 1.27,1.111 0.635,0.953
  text "+" at -4.614,-1.558 h1
Mechanical 14:
  circle w0.1: c0,2.175 r0.159
  circle w0.1: c0,-2.175 r0.159
  lines w0.1: -5.08,-2.81 -5.08,-0.318 ; -5.08,0.318 -5.08,2.81 ; -2.54,-2.81 -2.54,-0.953 -1.27,-0.953 ; -2.54,2.81 -2.54,0.953 -1.27,0.953 ; -0.635,-0.635 -0.061,-2.028 ; -0.635,0.635 -0.061,2.028 ; 0,-2.81 0,-2.334 ; 0,2.334 0,2.81 ; 1.27,-0.953 2.54,-0.953 2.54,-2.81 ; 1.27,0.953 2.54,0.953 2.54,2.81 ; -7.15,-4.65 7.15,-4.65 7.15,4.65 -7.15,4.65 -7.15,-4.65 ; -5.715,-0.318 -5.715,0.318 -4.445,0.318 -4.445,-0.318 -5.715,-0.318 ; -1.27,-1.111 -1.27,-0.794 -0.635,-0.953 -1.27,-1.111 ; -1.27,0.794 -1.27,1.111 -0.635,0.953 -1.27,0.794 ; 0.635,-0.953 1.27,-0.794 1.27,-1.111 0.635,-0.953 ; 0.635,0.953 1.27,0.794 1.27,1.111 0.635,0.953
  text "+" at -4.614,-1.558 h1
3D body: height 0, standoff -3.1, extent -5.33,3.685 -4.83,3.935
3D body: height 0, standoff -3.1, extent -2.79,3.685 -2.29,3.935
3D body: height 0, standoff -3.1, extent -0.25,3.685 0.25,3.935
3D body: height 0, standoff -3.1, extent 2.29,3.685 2.79,3.935
3D body: height 0, standoff -3.1, extent 4.83,3.685 5.33,3.935
3D body: height 0, standoff -3.1, extent 4.83,-3.935 5.33,-3.685
3D body: height 0, standoff -3.1, extent 2.29,-3.935 2.79,-3.685
3D body: height 0, standoff -3.1, extent -0.25,-3.935 0.25,-3.685
3D body: height 0, standoff -3.1, extent -2.79,-3.935 -2.29,-3.685
3D body: height 0, standoff -3.1, extent -5.33,-3.935 -4.83,-3.685
3D body: height 5.4, standoff -3.5, extent -7.15,-4.65 7.15,4.65

## REL_OMRON_G6K-2F [mm] "SMD Relay,  Body 10.2mm x 6.7mm, OMRON_G6K-2F"
height 5.4
pads (8):
  rect 0.8x1.8 smd: 1(-3.9,-3.5) 2(-0.7,-3.5) 3(1.5,-3.5) 4(3.7,-3.5) 5(3.7,3.5) 6(1.5,3.5) 7(-0.7,3.5) 8(-3.9,3.5)
Top Overlay:
  circle w0.2: c1.5,1.8 r0.159
  circle w0.2: c1.5,-1.8 r0.159
  lines w0.2: -5.1,-1.2 -4.7,-1.2 -4.7,1.2 -5.1,1.2 ; -5,-1.2 -5,1.2 ; -4.9,-1.2 -4.9,1.2 ; -4.8,-1.2 -4.8,1.2 ; -4.7,-3.35 -5.1,-3.35 -5.1,3.35 -4.7,3.35 ; -3.6,-2.3 -3.6,-0.5 ; -3.6,0.5 -3.6,2.3 ; -3.1,-3.35 -1.5,-3.35 ; -3.1,3.35 -1.5,3.35 ; -0.7,-2.3 -0.7,-0.6 0,-0.6 ; -0.7,2.3 -0.7,0.6 0,0.6 ; 0.1,-3.35 0.7,-3.35 ; 0.1,3.35 0.7,3.35 ; 0.493,-0.338 1.4,-1.675 ; 0.493,0.338 1.4,1.675 ; 1.5,-2.3 1.5,-2 ; 1.5,2 1.5,2.3 ; 2.3,-3.35 2.9,-3.35 ; 2.3,3.35 2.9,3.35 ; 2.6,-0.6 3.7,-0.6 3.7,-2.3 ; 2.6,0.6 3.7,0.6 3.7,2.3 ; 4.5,-3.35 5.1,-3.35 5.1,3.35 4.5,3.35 ; -4.3,-0.5 -4.3,0.5 -2.9,0.5 -2.9,-0.5 -4.3,-0.5 ; 0,-0.759 0.635,-0.6 0,-0.441 0,-0.759 ; 0,0.441 0,0.759 0.635,0.6 0,0.441 ; 1.965,-0.6 2.6,-0.759 2.6,-0.441 1.965,-0.6 ; 1.965,0.6 2.6,0.441 2.6,0.759 1.965,0.6
Mechanical 8:
  lines w0.1: -4.9,-3.5 -3.9,-3.5 ; -4.9,3.5 -3.9,3.5 ; -3.9,-4.5 -3.9,-3.5 ; -3.9,-2.5 -3.9,-3.5 ; -3.9,2.5 -3.9,3.5 ; -3.9,4.5 -3.9,3.5 ; -2.9,-3.5 -3.9,-3.5 ; -2.9,3.5 -3.9,3.5 ; -1.7,-3.5 -0.7,-3.5 ; -1.7,3.5 -0.7,3.5 ; -1,0 0,0 ; -0.7,-4.5 -0.7,-3.5 ; -0.7,-2.5 -0.7,-3.5 ; -0.7,2.5 -0.7,3.5 ; -0.7,4.5 -0.7,3.5 ; 0,-1 0,0 ; 0,1 0,0 ; 0.3,-3.5 -0.7,-3.5 ; 0.3,3.5 -0.7,3.5 ; 0.5,-3.5 1.5,-3.5 ; 0.5,3.5 1.5,3.5 ; 1,0 0,0 ; 1.5,-4.5 1.5,-3.5 ; 1.5,-2.5 1.5,-3.5 ; 1.5,2.5 1.5,3.5 ; 1.5,4.5 1.5,3.5 ; 2.5,-3.5 1.5,-3.5 ; 2.5,3.5 1.5,3.5 ; 2.7,-3.5 3.7,-3.5 ; 2.7,3.5 3.7,3.5 ; 3.7,-4.5 3.7,-3.5 ; 3.7,-2.5 3.7,-3.5 ; 3.7,2.5 3.7,3.5 ; 3.7,4.5 3.7,3.5 ; 4.7,-3.5 3.7,-3.5 ; 4.7,3.5 3.7,3.5
Mechanical 14:
  circle w0.1: c1.5,1.8 r0.159
  circle w0.1: c1.5,-1.8 r0.159
  lines w0.1: -5.1,-1.2 -4.6,-1.2 -4.6,1.2 -5.1,1.2 ; -5,-1.2 -5,1.2 ; -4.9,-1.2 -4.9,1.2 ; -4.8,-1.2 -4.8,1.2 ; -4.7,-1.2 -4.7,1.2 ; -3.6,-2.3 -3.6,-0.5 ; -3.6,0.5 -3.6,2.3 ; -0.7,-2.3 -0.7,-0.6 0,-0.6 ; -0.7,2.3 -0.7,0.6 0,0.6 ; 0.493,-0.338 1.4,-1.675 ; 0.493,0.338 1.4,1.675 ; 1.5,-2.3 1.5,-2 ; 1.5,2 1.5,2.3 ; 2.6,-0.6 3.7,-0.6 3.7,-2.3 ; 2.6,0.6 3.7,0.6 3.7,2.3 ; -5.1,-3.35 -5.1,3.35 5.1,3.35 5.1,-3.35 -5.1,-3.35 ; -4.3,-0.5 -4.3,0.5 -2.9,0.5 -2.9,-0.5 -4.3,-0.5 ; 0,-0.759 0.635,-0.6 0,-0.441 0,-0.759 ; 0,0.441 0,0.759 0.635,0.6 0,0.441 ; 1.965,-0.6 2.6,-0.759 2.6,-0.441 1.965,-0.6 ; 1.965,0.6 2.6,0.441 2.6,0.759 1.965,0.6
3D body: height 5.4, standoff 0, extent -5.1,-3.9 5.1,3.9

## REL_OMRON_G6KU-2F-Y [mm] "SMD Relay,  Body 10.2mm x 6.7mm, OMRON_G6KU-2F-Y"
height 5.4
pads (8):
  rect 0.8x1.8 smd: 1(-3.8,-3.5) 2(-0.6,-3.5) 3(1.6,-3.5) 4(3.8,-3.5) 5(3.8,3.5) 6(1.6,3.5) 7(-0.6,3.5) 8(-3.8,3.5)
Top Overlay:
  circle w0.2: c1.6,1.8 r0.159
  circle w0.2: c1.6,-1.8 r0.159
  lines w0.2: -5,-1.2 -4.6,-1.2 -4.6,1.2 -5,1.2 ; -4.9,-1.2 -4.9,1.2 ; -4.8,-1.2 -4.8,1.2 ; -4.7,-1.2 -4.7,1.2 ; -4.6,-3.35 -5.1,-3.35 -5.1,3.35 -4.6,3.35 ; -3.8,-2.15 -3.8,-0.6 ; -3.8,0.6 -3.8,2.15 ; -3,-3.35 -1.4,-3.35 ; -3,3.35 -1.4,3.35 ; -0.6,-2.15 -0.6,-0.6 0.1,-0.6 ; -0.6,2.15 -0.6,0.6 0.1,0.6 ; 0.2,-3.35 0.8,-3.35 ; 0.2,3.35 0.8,3.35 ; 0.593,-0.338 1.5,-1.675 ; 0.593,0.338 1.5,1.675 ; 1.6,-2.15 1.6,-2 ; 1.6,2 1.6,2.15 ; 2.4,-3.35 3,-3.35 ; 2.4,3.35 3,3.35 ; 2.7,-0.6 3.8,-0.6 3.8,-2.15 ; 2.7,0.6 3.8,0.6 3.8,2.15 ; 4.6,-3.35 5.1,-3.35 5.1,3.35 4.6,3.35 ; -4.2,-0.5 -4.2,0.5 -2.8,0.5 -2.8,-0.5 -4.2,-0.5 ; 0.1,-0.759 0.735,-0.6 0.1,-0.441 0.1,-0.759 ; 0.1,0.441 0.1,0.759 0.735,0.6 0.1,0.441 ; 2.065,-0.6 2.7,-0.759 2.7,-0.441 2.065,-0.6 ; 2.065,0.6 2.7,0.441 2.7,0.759 2.065,0.6
  text "-" at -3.284,0.89 h0.8
  text "+" at -3.234,-1.785 h0.8
Mechanical 8:
  lines w0.1: -4.3,-3.5 -3.8,-3.5 ; -4.3,3.5 -3.8,3.5 ; -3.8,-4 -3.8,-3.5 ; -3.8,-3 -3.8,-3.5 ; -3.8,3 -3.8,3.5 ; -3.8,4 -3.8,3.5 ; -3.3,-3.5 -3.8,-3.5 ; -3.3,3.5 -3.8,3.5 ; -1.1,-3.5 -0.6,-3.5 ; -1.1,3.5 -0.6,3.5 ; -0.6,-4 -0.6,-3.5 ; -0.6,-3 -0.6,-3.5 ; -0.6,3 -0.6,3.5 ; -0.6,4 -0.6,3.5 ; -0.5,0 0,0 ; -0.1,-3.5 -0.6,-3.5 ; -0.1,3.5 -0.6,3.5 ; 0,-0.5 0,0 ; 0,0.5 0,0 ; 0.5,0 0,0 ; 1.1,-3.5 1.6,-3.5 ; 1.1,3.5 1.6,3.5 ; 1.6,-4 1.6,-3.5 ; 1.6,-3 1.6,-3.5 ; 1.6,3 1.6,3.5 ; 1.6,4 1.6,3.5 ; 2.1,-3.5 1.6,-3.5 ; 2.1,3.5 1.6,3.5 ; 3.3,-3.5 3.8,-3.5 ; 3.3,3.5 3.8,3.5 ; 3.8,-4 3.8,-3.5 ; 3.8,-3 3.8,-3.5 ; 3.8,3 3.8,3.5 ; 3.8,4 3.8,3.5 ; 4.3,-3.5 3.8,-3.5 ; 4.3,3.5 3.8,3.5 ; -4.2,-4.4 -4.2,-2.6 -3.4,-2.6 -3.4,-4.4 -4.2,-4.4 ; -4.2,2.6 -4.2,4.4 -3.4,4.4 -3.4,2.6 -4.2,2.6 ; -1,-4.4 -1,-2.6 -0.2,-2.6 -0.2,-4.4 -1,-4.4 ; -1,2.6 -1,4.4 -0.2,4.4 -0.2,2.6 -1,2.6 ; 1.2,-4.4 1.2,-2.6 2,-2.6 2,-4.4 1.2,-4.4 ; 1.2,2.6 1.2,4.4 2,4.4 2,2.6 1.2,2.6 ; 3.4,-4.4 3.4,-2.6 4.2,-2.6 4.2,-4.4 3.4,-4.4 ; 3.4,2.6 3.4,4.4 4.2,4.4 4.2,2.6 3.4,2.6
Mechanical 14:
  circle w0.1: c1.6,1.8 r0.159
  circle w0.1: c1.6,-1.8 r0.159
  lines w0.1: -5,-1.2 -4.5,-1.2 -4.5,1.2 -5,1.2 ; -4.9,-1.2 -4.9,1.2 ; -4.8,-1.2 -4.8,1.2 ; -4.7,-1.2 -4.7,1.2 ; -4.6,-1.2 -4.6,1.2 ; -3.8,-2.15 -3.8,-0.6 ; -3.8,0.6 -3.8,2.15 ; -0.6,-2.15 -0.6,-0.6 0.1,-0.6 ; -0.6,2.15 -0.6,0.6 0.1,0.6 ; 0.593,-0.338 1.5,-1.675 ; 0.593,0.338 1.5,1.675 ; 1.6,-2.15 1.6,-2 ; 1.6,2 1.6,2.15 ; 2.7,-0.6 3.8,-0.6 3.8,-2.15 ; 2.7,0.6 3.8,0.6 3.8,2.15 ; -5.1,-3.35 -5.1,3.35 5.1,3.35 5.1,-3.35 -5.1,-3.35 ; -4.2,-0.5 -4.2,0.5 -2.8,0.5 -2.8,-0.5 -4.2,-0.5 ; 0.1,-0.759 0.735,-0.6 0.1,-0.441 0.1,-0.759 ; 0.1,0.441 0.1,0.759 0.735,0.6 0.1,0.441 ; 2.065,-0.6 2.7,-0.759 2.7,-0.441 2.065,-0.6 ; 2.065,0.6 2.7,0.441 2.7,0.759 2.065,0.6
  text "-" at -3.284,0.89 h0.8
  text "+" at -3.234,-1.785 h0.8
Mechanical 15:
  lines w0.05: -5.35,-4.65 5.35,-4.65 5.35,4.65 -5.35,4.65 -5.35,-4.65
3D body: height 5.4, standoff 0, extent -5.1,-3.9 5.1,3.9

## REL_OMRON_G6RL-1 [mm] "5 Leads, Row Spacing 7.62 mm; Body 28.5mm x 10mm, OMRON_G6RL-1 Serie"
height 12.3
pads (5):
  rect 1.8x1.8 hole 1.3: 1(-12.75,-3.81)
  round 1.8 hole 1.3: 2(9.35,-3.81) 3(12.55,3.81) 4(6.15,3.81) 5(-12.75,3.81)
Top Overlay:
  circle w0.2: c9.4,-0.675 r0.159
  lines w0.2: -13.55,-2 -13.55,2 ; -13.35,-2 -13.35,2 ; -13.15,-2 -13.15,2 ; -12.95,-2 -12.95,2 ; -12.75,-2 -12.75,2 ; -12.55,-2 -12.55,2 ; -12.35,-2 -12.35,2 ; -11.084,-3.8 -9.179,-3.8 -9.179,-0.752 ; -11.084,3.82 -9.179,3.82 -9.179,0.772 ; 6.1,2.4 6.1,0.547 8.13,0.547 ; 8.765,0.865 9.339,-0.528 ; 9.4,-2.4 9.4,-0.834 ; 10.67,0.547 12.6,0.547 12.6,2.4 ; -14.25,-5 14.25,-5 14.25,5 -14.25,5 -14.25,-5 ; -13.75,-2 -13.75,2 -12.25,2 -12.25,-2 -13.75,-2 ; -10.449,-0.752 -7.909,-0.752 -7.909,0.772 -10.449,0.772 -10.449,-0.752 ; 8.13,0.389 8.765,0.547 8.13,0.706 8.13,0.389 ; 10.035,0.547 10.67,0.706 10.67,0.389 10.035,0.547
Mechanical 8:
  lines w0.1: -13.75,-3.81 -12.75,-3.81 ; -13.75,3.81 -12.75,3.81 ; -12.75,-4.81 -12.75,-3.81 ; -12.75,-2.81 -12.75,-3.81 ; -12.75,2.81 -12.75,3.81 ; -12.75,4.81 -12.75,3.81 ; -11.75,-3.81 -12.75,-3.81 ; -11.75,3.81 -12.75,3.81 ; -1,0 0,0 ; 0,-1 0,0 ; 0,1 0,0 ; 1,0 0,0 ; 5.15,3.81 6.15,3.81 ; 6.15,2.81 6.15,3.81 ; 6.15,4.81 6.15,3.81 ; 7.15,3.81 6.15,3.81 ; 8.35,-3.81 9.35,-3.81 ; 9.35,-4.81 9.35,-3.81 ; 9.35,-2.81 9.35,-3.81 ; 10.35,-3.81 9.35,-3.81 ; 11.55,3.81 12.55,3.81 ; 12.55,2.81 12.55,3.81 ; 12.55,4.81 12.55,3.81 ; 13.55,3.81 12.55,3.81
Mechanical 14:
  lines w0.1: -13.75,-5 -13.75,5 ; -12.25,-5 -12.25,5 ; -11.084,-3.8 -9.179,-3.8 -9.179,-0.752 ; -11.084,3.82 -9.179,3.82 -9.179,0.772 ; -14.25,-5 14.25,-5 14.25,5 -14.25,5 -14.25,-5 ; -10.449,-0.752 -7.909,-0.752 -7.909,0.772 -10.449,0.772 -10.449,-0.752
3D body: height 12.3, standoff -3.2, extent -14.25,-5 14.25,5

## REL_PANASONIC_AGQ200A [mm] "8 Leads Single Side Stable Relay,PANASONIC GQ Serie, Body 10.6mm x 7.2mm"
height 5.4
pads (8):
  rect 0.8x2.66 smd: 1(-3.8,-3.37) 2(-0.6,-3.37) 3(1.6,-3.37) 4(3.8,-3.37) 5(3.8,3.37) 6(1.6,3.37) 7(-0.6,3.37) 8(-3.8,3.37)
Top Overlay:
  lines w0.2: -4.6,-3.75 -5.45,-3.75 -5.45,3.75 -4.6,3.75 ; -3.8,-1.6 -3.8,-0.8 ; -3.8,0.8 -3.8,1.6 ; -3,-3.75 -1.4,-3.75 ; -3,3.75 -1.4,3.75 ; -2.8,-1.6 -1.8,-1.6 ; -2.8,1.6 -1.8,1.6 ; -2.3,-2.1 -2.3,-1.1 ; -0.6,-1.6 -0.6,-0.8 0.7,-0.8 ; -0.6,1.6 -0.6,0.8 0.7,0.8 ; 0.2,-3.75 0.8,-3.75 ; 0.2,3.75 0.8,3.75 ; 0.6,-0.4 1.6,-1.2 1.6,-1.6 ; 0.6,0.4 1.6,1.2 1.6,1.6 ; 2.4,-3.75 3,-3.75 ; 2.4,3.75 3,3.75 ; 2.5,-0.8 3.8,-0.8 3.8,-1.6 ; 2.5,0.8 3.8,0.8 3.8,1.6 ; 4.6,-3.75 5.45,-3.75 5.45,3.75 4.6,3.75 ; -5.2,-2.5 -4.6,-2.5 -4.6,2.5 -5.2,2.5 -5.2,-2.5 ; -4.2,-0.8 -4.2,0.8 -3.4,0.8 -3.4,-0.8 -4.2,-0.8
Mechanical 8:
  lines w0.1: -4.3,-3.37 -3.8,-3.37 ; -4.3,3.37 -3.8,3.37 ; -3.8,-3.87 -3.8,-3.37 ; -3.8,-2.87 -3.8,-3.37 ; -3.8,2.87 -3.8,3.37 ; -3.8,3.87 -3.8,3.37 ; -3.3,-3.37 -3.8,-3.37 ; -3.3,3.37 -3.8,3.37 ; -1.1,-3.37 -0.6,-3.37 ; -1.1,3.37 -0.6,3.37 ; -0.6,-3.87 -0.6,-3.37 ; -0.6,-2.87 -0.6,-3.37 ; -0.6,2.87 -0.6,3.37 ; -0.6,3.87 -0.6,3.37 ; -0.5,0 0,0 ; -0.1,-3.37 -0.6,-3.37 ; -0.1,3.37 -0.6,3.37 ; 0,-0.5 0,0 ; 0,0.5 0,0 ; 0.5,0 0,0 ; 1.1,-3.37 1.6,-3.37 ; 1.1,3.37 1.6,3.37 ; 1.6,-3.87 1.6,-3.37 ; 1.6,-2.87 1.6,-3.37 ; 1.6,2.87 1.6,3.37 ; 1.6,3.87 1.6,3.37 ; 2.1,-3.37 1.6,-3.37 ; 2.1,3.37 1.6,3.37 ; 3.3,-3.37 3.8,-3.37 ; 3.3,3.37 3.8,3.37 ; 3.8,-3.87 3.8,-3.37 ; 3.8,-2.87 3.8,-3.37 ; 3.8,2.87 3.8,3.37 ; 3.8,3.87 3.8,3.37 ; 4.3,-3.37 3.8,-3.37 ; 4.3,3.37 3.8,3.37 ; -4.2,-4.7 -3.4,-4.7 -3.4,-2.04 -4.2,-2.04 -4.2,-4.7 ; -4.2,2.04 -3.4,2.04 -3.4,4.7 -4.2,4.7 -4.2,2.04 ; -1,-4.7 -0.2,-4.7 -0.2,-2.04 -1,-2.04 -1,-4.7 ; -1,2.04 -0.2,2.04 -0.2,4.7 -1,4.7 -1,2.04 ; 1.2,-4.7 2,-4.7 2,-2.04 1.2,-2.04 1.2,-4.7 ; 1.2,2.04 2,2.04 2,4.7 1.2,4.7 1.2,2.04 ; 3.4,-4.7 4.2,-4.7 4.2,-2.04 3.4,-2.04 3.4,-4.7 ; 3.4,2.04 4.2,2.04 4.2,4.7 3.4,4.7 3.4,2.04
Mechanical 14:
  lines w0.1: -3.8,-1.6 -3.8,-0.8 ; -3.8,0.8 -3.8,1.6 ; -2.8,-1.6 -1.8,-1.6 ; -2.8,1.6 -1.8,1.6 ; -2.3,-2.1 -2.3,-1.1 ; -0.6,-1.6 -0.6,-0.8 0.7,-0.8 ; -0.6,1.6 -0.6,0.8 0.7,0.8 ; 0.6,-0.4 1.6,-1.2 1.6,-1.6 ; 0.6,0.4 1.6,1.2 1.6,1.6 ; 2.5,-0.8 3.8,-0.8 3.8,-1.6 ; 2.5,0.8 3.8,0.8 3.8,1.6 ; -5.45,-3.75 -5.45,3.75 5.45,3.75 5.45,-3.75 -5.45,-3.75 ; -5.2,-2.5 -4.6,-2.5 -4.6,2.5 -5.2,2.5 -5.2,-2.5 ; -4.2,-0.8 -3.4,-0.8 -3.4,0.8 -4.2,0.8 -4.2,-0.8
Mechanical 15:
  lines w0.05: -5.7,-4.95 5.7,-4.95 5.7,4.95 -5.7,4.95 -5.7,-4.95
3D body: height 5.4, standoff 0, extent -5.45,-4.364 5.45,4.364